# EAGLE library part TPA511GLFS (library Switches)
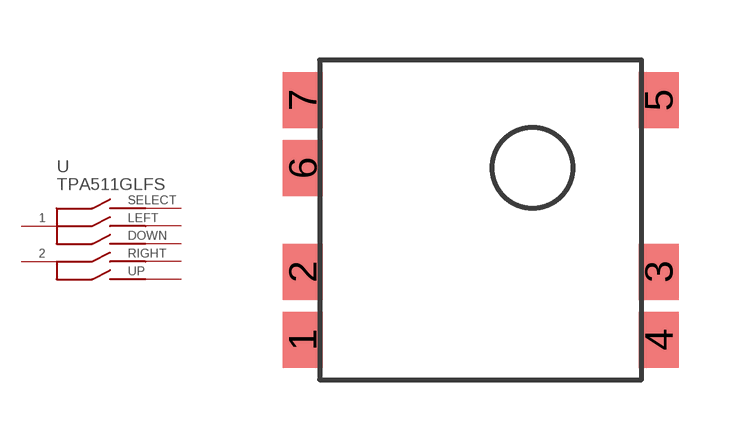
[diagram p0: symbol with the pads of TPA511GLFS; footprint TPA511GLFS]

Designator prefix -

## TPA511GLFS  [TPA511GLFS]
1  1
2  2
3  UP
4  DOWN
5  SELECT
6  RIGHT
7  LEFT

## Footprint TPA511GLFS (pad centres in mm)
smd 1 x 1.4: 1 -5.75,-4.3; 2 -5.75,-2.6; 3 3.15,-2.6; 4 3.15,-4.3; 5 3.15,1.7; 6 -5.75,0; 7 -5.75,1.7